# Altium footprint library qfp_footp.PcbLib: 36 footprints (part 1 of 4)
Each footprint in its own frame and in the unit in brackets; x right, y up, seen from the top. Pads: shape width x height; smd on the part's side, far side on the other; paste and mask are expansions set on the pad; w line width, h text height; cw(c..) or ccw(c..) is an arc to the next point about the centre after c.
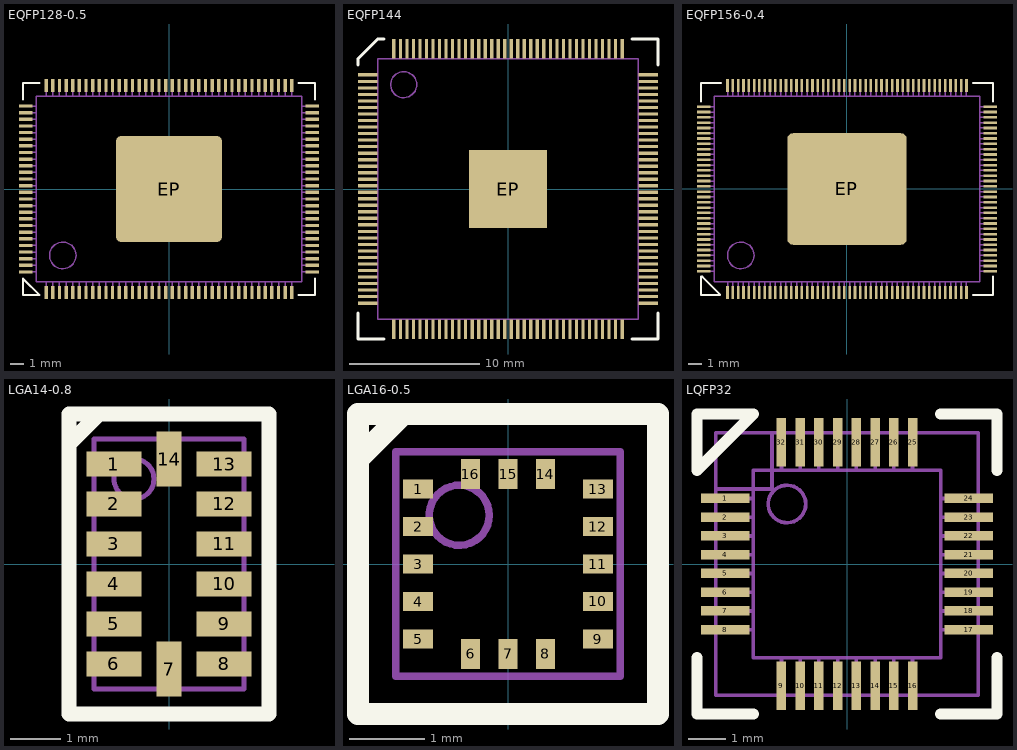
[diagram p0: the footprints below, top view; thin cyan lines are the x and y axes]

## EQFP128-0.5 [mm]
pads (129):
  rect 0.25x1 smd: 1(-9.25,-7.8) 2(-8.75,-7.8) 3(-8.25,-7.8) 4(-7.75,-7.8) 5(-7.25,-7.8) 6(-6.75,-7.8) 7(-6.25,-7.8) 8(-5.75,-7.8) 9(-5.25,-7.8) 10(-4.75,-7.8) 11(-4.25,-7.8) 12(-3.75,-7.8) 13(-3.25,-7.8) 14(-2.75,-7.8) 15(-2.25,-7.8) 16(-1.75,-7.8) 17(-1.25,-7.8) 18(-0.75,-7.8) 19(-0.25,-7.8) 20(0.25,-7.8) 21(0.75,-7.8) 22(1.25,-7.8) 23(1.75,-7.8) 24(2.25,-7.8) 25(2.75,-7.8) 26(3.25,-7.8) 27(3.75,-7.8) 28(4.25,-7.8) 29(4.75,-7.8) 30(5.25,-7.8) 31(5.75,-7.8) 32(6.25,-7.8) 33(6.75,-7.8) 34(7.25,-7.8) 35(7.75,-7.8) 36(8.25,-7.8) 37(8.75,-7.8) 38(9.25,-7.8) 65(9.25,7.8) 66(8.75,7.8) 67(8.25,7.8) 68(7.75,7.8) 69(7.25,7.8) 70(6.75,7.8) 71(6.25,7.8) 72(5.75,7.8) 73(5.25,7.8) 74(4.75,7.8) 75(4.25,7.8) 76(3.75,7.8) 77(3.25,7.8) 78(2.75,7.8) 79(2.25,7.8) 80(1.75,7.8) 81(1.25,7.8) 82(0.75,7.8) 83(0.25,7.8) 84(-0.25,7.8) 85(-0.75,7.8) 86(-1.25,7.8) 87(-1.75,7.8) 88(-2.25,7.8) 89(-2.75,7.8) 90(-3.25,7.8) 91(-3.75,7.8) 92(-4.25,7.8) 93(-4.75,7.8) 94(-5.25,7.8) 95(-5.75,7.8) 96(-6.25,7.8) 97(-6.75,7.8) 98(-7.25,7.8) 99(-7.75,7.8) 100(-8.25,7.8) 101(-8.75,7.8) 102(-9.25,7.8)
  rect 1x0.25 smd: 39(10.8,-6.25) 40(10.8,-5.75) 41(10.8,-5.25) 42(10.8,-4.75) 43(10.8,-4.25) 44(10.8,-3.75) 45(10.8,-3.25) 46(10.8,-2.75) 47(10.8,-2.25) 48(10.8,-1.75) 49(10.8,-1.25) 50(10.8,-0.75) 51(10.8,-0.25) 52(10.8,0.25) 53(10.8,0.75) 54(10.8,1.25) 55(10.8,1.75) 56(10.8,2.25) 57(10.8,2.75) 58(10.8,3.25) 59(10.8,3.75) 60(10.8,4.25) 61(10.8,4.75) 62(10.8,5.25) 63(10.8,5.75) 64(10.8,6.25) 103(-10.8,6.25) 104(-10.8,5.75) 105(-10.8,5.25) 106(-10.8,4.75) 107(-10.8,4.25) 108(-10.8,3.75) 109(-10.8,3.25) 110(-10.8,2.75) 111(-10.8,2.25) 112(-10.8,1.75) 113(-10.8,1.25) 114(-10.8,0.75) 115(-10.8,0.25) 116(-10.8,-0.25) 117(-10.8,-0.75) 118(-10.8,-1.25) 119(-10.8,-1.75) 120(-10.8,-2.25) 121(-10.8,-2.75) 122(-10.8,-3.25) 123(-10.8,-3.75) 124(-10.8,-4.25) 125(-10.8,-4.75) 126(-10.8,-5.25) 127(-10.8,-5.75) 128(-10.8,-6.25)
  rrect10% 8x8 smd paste-1.5: EP(0,0)
Top Overlay:
  lines w0.15: -11,6.75 -11,8 -9.75,8 ; 9.75,-8 11,-8 11,-6.75 ; 9.75,8 11,8 11,6.75 ; -11,-8 -11,-6.75 -9.75,-8 -11,-8
Mechanical 1:
  circle w0.1: c-8,-5 r1
  lines w0.1: -11,-6.25 -10,-6.25 ; -11,-5.75 -10,-5.75 ; -11,-5.25 -10,-5.25 ; -11,-4.75 -10,-4.75 ; -11,-4.25 -10,-4.25 ; -11,-3.75 -10,-3.75 ; -11,-3.25 -10,-3.25 ; -11,-2.75 -10,-2.75 ; -11,-2.25 -10,-2.25 ; -11,-1.75 -10,-1.75 ; -11,-1.25 -10,-1.25 ; -11,-0.75 -10,-0.75 ; -11,-0.25 -10,-0.25 ; -11,0.25 -10,0.25 ; -11,0.75 -10,0.75 ; -11,1.25 -10,1.25 ; -11,1.75 -10,1.75 ; -11,2.25 -10,2.25 ; -11,2.75 -10,2.75 ; -11,3.25 -10,3.25 ; -11,3.75 -10,3.75 ; -11,4.25 -10,4.25 ; -11,4.75 -10,4.75 ; -11,5.25 -10,5.25 ; -11,5.75 -10,5.75 ; -11,6.25 -10,6.25 ; -9.25,-8 -9.25,-7 ; -9.25,7 -9.25,8 ; -8.75,-8 -8.75,-7 ; -8.75,7 -8.75,8 ; -8.25,-8 -8.25,-7 ; -8.25,7 -8.25,8 ; -7.75,-8 -7.75,-7 ; -7.75,7 -7.75,8 ; -7.25,-8 -7.25,-7 ; -7.25,7 -7.25,8 ; -6.75,-8 -6.75,-7 ; -6.75,7 -6.75,8 ; -6.25,-8 -6.25,-7 ; -6.25,7 -6.25,8 ; -5.75,-8 -5.75,-7 ; -5.75,7 -5.75,8 ; -5.25,-8 -5.25,-7 ; -5.25,7 -5.25,8 ; -4.75,-8 -4.75,-7 ; -4.75,7 -4.75,8 ; -4.25,-8 -4.25,-7 ; -4.25,7 -4.25,8 ; -3.75,-8 -3.75,-7 ; -3.75,7 -3.75,8 ; -3.25,-8 -3.25,-7 ; -3.25,7 -3.25,8 ; -2.75,-8 -2.75,-7 ; -2.75,7 -2.75,8 ; -2.25,-8 -2.25,-7 ; -2.25,7 -2.25,8 ; -1.75,-8 -1.75,-7 ; -1.75,7 -1.75,8 ; -1.25,-8 -1.25,-7 ; -1.25,7 -1.25,8 ; -0.75,-8 -0.75,-7 ; -0.75,7 -0.75,8 ; -0.25,-8 -0.25,-7 ; -0.25,7 -0.25,8 ; 0.25,-8 0.25,-7 ; 0.25,7 0.25,8 ; 0.75,-8 0.75,-7 ; 0.75,7 0.75,8 ; 1.25,-8 1.25,-7 ; 1.25,7 1.25,8 ; 1.75,-8 1.75,-7 ; 1.75,7 1.75,8 ; 2.25,-8 2.25,-7 ; 2.25,7 2.25,8 ; 2.75,-8 2.75,-7 ; 2.75,7 2.75,8 ; 3.25,-8 3.25,-7 ; 3.25,7 3.25,8 ; 3.75,-8 3.75,-7 ; 3.75,7 3.75,8 ; 4.25,-8 4.25,-7 ; 4.25,7 4.25,8 ; 4.75,-8 4.75,-7 ; 4.75,7 4.75,8 ; 5.25,-8 5.25,-7 ; 5.25,7 5.25,8 ; 5.75,-8 5.75,-7 ; 5.75,7 5.75,8 ; 6.25,-8 6.25,-7 ; 6.25,7 6.25,8 ; 6.75,-8 6.75,-7 ; 6.75,7 6.75,8 ; 7.25,-8 7.25,-7 ; 7.25,7 7.25,8 ; 7.75,-8 7.75,-7 ; 7.75,7 7.75,8 ; 8.25,-8 8.25,-7 ; 8.25,7 8.25,8 ; 8.75,-8 8.75,-7 ; 8.75,7 8.75,8 ; 9.25,-8 9.25,-7 ; 9.25,7 9.25,8 ; 10,-6.25 11,-6.25 ; 10,-5.75 11,-5.75 ; 10,-5.25 11,-5.25 ; 10,-4.75 11,-4.75 ; 10,-4.25 11,-4.25 ; 10,-3.75 11,-3.75 ; 10,-3.25 11,-3.25 ; 10,-2.75 11,-2.75 ; 10,-2.25 11,-2.25 ; 10,-1.75 11,-1.75 ; 10,-1.25 11,-1.25 ; 10,-0.75 11,-0.75 ; 10,-0.25 11,-0.25 ; 10,0.25 11,0.25 ; 10,0.75 11,0.75 ; 10,1.25 11,1.25 ; 10,1.75 11,1.75 ; 10,2.25 11,2.25 ; 10,2.75 11,2.75 ; 10,3.25 11,3.25 ; 10,3.75 11,3.75 ; 10,4.25 11,4.25 ; 10,4.75 11,4.75 ; 10,5.25 11,5.25 ; 10,5.75 11,5.75 ; 10,6.25 11,6.25 ; -10,-7 10,-7 10,7 -10,7 -10,-7 ; -3.5,-3.5 3.5,-3.5 3.5,3.5 -3.5,3.5 -3.5,-3.5
3D body: height 0.75, standoff 0, extent 9.302,-6.35 11,-6.15
3D body: height 0.75, standoff 0, extent 9.302,-5.85 11,-5.65
3D body: height 0.75, standoff 0, extent 9.302,-4.85 11,-4.65
3D body: height 0.75, standoff 0, extent 9.302,-5.35 11,-5.15
3D body: height 0.75, standoff 0, extent 9.302,-3.35 11,-3.15
3D body: height 0.75, standoff 0, extent 9.302,-2.85 11,-2.65
3D body: height 0.75, standoff 0, extent 9.302,-3.85 11,-3.65
3D body: height 0.75, standoff 0, extent 9.302,-4.35 11,-4.15
3D body: height 0.75, standoff 0, extent 9.302,-0.35 11,-0.15
3D body: height 0.75, standoff 0, extent 9.302,0.15 11,0.35
3D body: height 0.75, standoff 0, extent 9.302,1.15 11,1.35
3D body: height 0.75, standoff 0, extent 9.302,0.65 11,0.85
3D body: height 0.75, standoff 0, extent 9.302,-1.35 11,-1.15
3D body: height 0.75, standoff 0, extent 9.302,-0.85 11,-0.65
3D body: height 0.75, standoff 0, extent 9.302,-1.85 11,-1.65
3D body: height 0.75, standoff 0, extent 9.302,-2.35 11,-2.15
3D body: height 0.75, standoff 0, extent 9.302,3.65 11,3.85
3D body: height 0.75, standoff 0, extent 9.302,4.15 11,4.35
3D body: height 0.75, standoff 0, extent 9.302,5.15 11,5.35
3D body: height 0.75, standoff 0, extent 9.302,4.65 11,4.85
3D body: height 0.75, standoff 0, extent 9.302,2.65 11,2.85
3D body: height 0.75, standoff 0, extent 9.302,3.15 11,3.35
3D body: height 0.75, standoff 0, extent 9.302,2.15 11,2.35
3D body: height 0.75, standoff 0, extent 9.302,1.65 11,1.85
3D body: height 0.75, standoff 0, extent 9.302,6.15 11,6.35
3D body: height 0.75, standoff 0, extent 9.302,5.65 11,5.85
3D body: height 0.75, standoff 0, extent 7.15,6.302 7.35,8
3D body: height 0.75, standoff 0, extent 6.65,6.302 6.85,8
3D body: height 0.75, standoff 0, extent 5.65,6.302 5.85,8
3D body: height 0.75, standoff 0, extent 6.15,6.302 6.35,8
3D body: height 0.75, standoff 0, extent 8.15,6.302 8.35,8
3D body: height 0.75, standoff 0, extent 7.65,6.302 7.85,8
3D body: height 0.75, standoff 0, extent 8.65,6.302 8.85,8
3D body: height 0.75, standoff 0, extent 9.15,6.302 9.35,8
3D body: height 0.75, standoff 0, extent 3.15,6.302 3.35,8
3D body: height 0.75, standoff 0, extent 2.65,6.302 2.85,8
3D body: height 0.75, standoff 0, extent 1.65,6.302 1.85,8
3D body: height 0.75, standoff 0, extent 2.15,6.302 2.35,8
3D body: height 0.75, standoff 0, extent 4.15,6.302 4.35,8
3D body: height 0.75, standoff 0, extent 3.65,6.302 3.85,8
3D body: height 0.75, standoff 0, extent 4.65,6.302 4.85,8
3D body: height 0.75, standoff 0, extent 5.15,6.302 5.35,8
3D body: height 0.75, standoff 0, extent -0.85,6.302 -0.65,8
3D body: height 0.75, standoff 0, extent -1.35,6.302 -1.15,8
3D body: height 0.75, standoff 0, extent -2.35,6.302 -2.15,8
3D body: height 0.75, standoff 0, extent -1.85,6.302 -1.65,8
3D body: height 0.75, standoff 0, extent 0.15,6.302 0.35,8
3D body: height 0.75, standoff 0, extent -0.35,6.302 -0.15,8
3D body: height 0.75, standoff 0, extent 0.65,6.302 0.85,8
3D body: height 0.75, standoff 0, extent 1.15,6.302 1.35,8
3D body: height 0.75, standoff 0, extent -4.85,6.302 -4.65,8
3D body: height 0.75, standoff 0, extent -5.35,6.302 -5.15,8
3D body: height 0.75, standoff 0, extent -6.35,6.302 -6.15,8
3D body: height 0.75, standoff 0, extent -5.85,6.302 -5.65,8
3D body: height 0.75, standoff 0, extent -3.85,6.302 -3.65,8
3D body: height 0.75, standoff 0, extent -4.35,6.302 -4.15,8
3D body: height 0.75, standoff 0, extent -3.35,6.302 -3.15,8
3D body: height 0.75, standoff 0, extent -2.85,6.302 -2.65,8
3D body: height 0.75, standoff 0, extent -8.85,6.302 -8.65,8
3D body: height 0.75, standoff 0, extent -9.35,6.302 -9.15,8
3D body: height 0.75, standoff 0, extent -7.85,6.302 -7.65,8
3D body: height 0.75, standoff 0, extent -8.35,6.302 -8.15,8
3D body: height 0.75, standoff 0, extent -7.35,6.302 -7.15,8
3D body: height 0.75, standoff 0, extent -6.85,6.302 -6.65,8
3D body: height 0.75, standoff 0, extent 6.65,-8 6.85,-6.302
3D body: height 0.75, standoff 0, extent 7.15,-8 7.35,-6.302
3D body: height 0.75, standoff 0, extent 8.15,-8 8.35,-6.302
3D body: height 0.75, standoff 0, extent 7.65,-8 7.85,-6.302
3D body: height 0.75, standoff 0, extent 9.15,-8 9.35,-6.302
3D body: height 0.75, standoff 0, extent 8.65,-8 8.85,-6.302
3D body: height 0.75, standoff 0, extent 2.65,-8 2.85,-6.302
3D body: height 0.75, standoff 0, extent 3.15,-8 3.35,-6.302
3D body: height 0.75, standoff 0, extent 4.15,-8 4.35,-6.302
3D body: height 0.75, standoff 0, extent 3.65,-8 3.85,-6.302
3D body: height 0.75, standoff 0, extent 5.65,-8 5.85,-6.302
3D body: height 0.75, standoff 0, extent 6.15,-8 6.35,-6.302
3D body: height 0.75, standoff 0, extent 5.15,-8 5.35,-6.302
3D body: height 0.75, standoff 0, extent 4.65,-8 4.85,-6.302
3D body: height 0.75, standoff 0, extent -1.35,-8 -1.15,-6.302
3D body: height 0.75, standoff 0, extent -0.85,-8 -0.65,-6.302
3D body: height 0.75, standoff 0, extent 0.15,-8 0.35,-6.302
3D body: height 0.75, standoff 0, extent -0.35,-8 -0.15,-6.302
3D body: height 0.75, standoff 0, extent 1.65,-8 1.85,-6.302
3D body: height 0.75, standoff 0, extent 2.15,-8 2.35,-6.302
3D body: height 0.75, standoff 0, extent 1.15,-8 1.35,-6.302
3D body: height 0.75, standoff 0, extent 0.65,-8 0.85,-6.302
3D body: height 0.75, standoff 0, extent -5.35,-8 -5.15,-6.302
3D body: height 0.75, standoff 0, extent -4.85,-8 -4.65,-6.302
3D body: height 0.75, standoff 0, extent -3.85,-8 -3.65,-6.302
3D body: height 0.75, standoff 0, extent -4.35,-8 -4.15,-6.302
3D body: height 0.75, standoff 0, extent -2.35,-8 -2.15,-6.302
3D body: height 0.75, standoff 0, extent -1.85,-8 -1.65,-6.302
3D body: height 0.75, standoff 0, extent -2.85,-8 -2.65,-6.302
3D body: height 0.75, standoff 0, extent -3.35,-8 -3.15,-6.302
3D body: height 0.75, standoff 0, extent -9.35,-8 -9.15,-6.302
3D body: height 0.75, standoff 0, extent -8.85,-8 -8.65,-6.302
3D body: height 0.75, standoff 0, extent -7.85,-8 -7.65,-6.302
3D body: height 0.75, standoff 0, extent -8.35,-8 -8.15,-6.302
3D body: height 0.75, standoff 0, extent -6.35,-8 -6.15,-6.302
3D body: height 0.75, standoff 0, extent -5.85,-8 -5.65,-6.302
3D body: height 0.75, standoff 0, extent -6.85,-8 -6.65,-6.302
3D body: height 0.75, standoff 0, extent -7.35,-8 -7.15,-6.302
3D body: height 0.75, standoff 0, extent -11,-5.85 -9.302,-5.65
3D body: height 0.75, standoff 0, extent -11,-6.35 -9.302,-6.15
3D body: height 0.75, standoff 0, extent -11,-1.85 -9.302,-1.65
3D body: height 0.75, standoff 0, extent -11,-2.35 -9.302,-2.15
3D body: height 0.75, standoff 0, extent -11,-3.35 -9.302,-3.15
3D body: height 0.75, standoff 0, extent -11,-2.85 -9.302,-2.65
3D body: height 0.75, standoff 0, extent -11,-4.85 -9.302,-4.65
3D body: height 0.75, standoff 0, extent -11,-5.35 -9.302,-5.15
3D body: height 0.75, standoff 0, extent -11,-4.35 -9.302,-4.15
3D body: height 0.75, standoff 0, extent -11,-3.85 -9.302,-3.65
3D body: height 0.75, standoff 0, extent -11,2.15 -9.302,2.35
3D body: height 0.75, standoff 0, extent -11,1.65 -9.302,1.85
3D body: height 0.75, standoff 0, extent -11,0.65 -9.302,0.85
3D body: height 0.75, standoff 0, extent -11,1.15 -9.302,1.35
3D body: height 0.75, standoff 0, extent -11,-0.85 -9.302,-0.65
3D body: height 0.75, standoff 0, extent -11,-1.35 -9.302,-1.15
3D body: height 0.75, standoff 0, extent -11,-0.35 -9.302,-0.15
3D body: height 0.75, standoff 0, extent -11,0.15 -9.302,0.35
3D body: height 0.75, standoff 0, extent -11,4.15 -9.302,4.35
3D body: height 0.75, standoff 0, extent -11,3.65 -9.302,3.85
3D body: height 0.75, standoff 0, extent -11,2.65 -9.302,2.85
3D body: height 0.75, standoff 0, extent -11,3.15 -9.302,3.35
3D body: height 0.75, standoff 0, extent -11,5.15 -9.302,5.35
3D body: height 0.75, standoff 0, extent -11,4.65 -9.302,4.85
3D body: height 0.75, standoff 0, extent -11,5.65 -9.302,5.85
3D body: height 0.75, standoff 0, extent -11,6.15 -9.302,6.35
3D body: height 1.6, standoff 0.1, extent -10,-7 10,7

## EQFP144 [mm]
height 1.2
pads (145):
  rect 1.5x0.25 smd: 1(-10.75,8.75) 2(-10.75,8.25) 3(-10.75,7.75) 4(-10.75,7.25) 5(-10.75,6.75) 6(-10.75,6.25) 7(-10.75,5.75) 8(-10.75,5.25) 9(-10.75,4.75) 10(-10.75,4.25) 11(-10.75,3.75) 12(-10.75,3.25) 13(-10.75,2.75) 14(-10.75,2.25) 15(-10.75,1.75) 16(-10.75,1.25) 17(-10.75,0.75) 18(-10.75,0.25) 19(-10.75,-0.25) 20(-10.75,-0.75) 21(-10.75,-1.25) 22(-10.75,-1.75) 23(-10.75,-2.25) 24(-10.75,-2.75) 25(-10.75,-3.25) 26(-10.75,-3.75) 27(-10.75,-4.25) 28(-10.75,-4.75) 29(-10.75,-5.25) 30(-10.75,-5.75) 31(-10.75,-6.25) 32(-10.75,-6.75) 33(-10.75,-7.25) 34(-10.75,-7.75) 35(-10.75,-8.25) 36(-10.75,-8.75) 73(10.75,-8.75) 74(10.75,-8.25) 75(10.75,-7.75) 76(10.75,-7.25) 77(10.75,-6.75) 78(10.75,-6.25) 79(10.75,-5.75) 80(10.75,-5.25) 81(10.75,-4.75) 82(10.75,-4.25) 83(10.75,-3.75) 84(10.75,-3.25) 85(10.75,-2.75) 86(10.75,-2.25) 87(10.75,-1.75) 88(10.75,-1.25) 89(10.75,-0.75) 90(10.75,-0.25) 91(10.75,0.25) 92(10.75,0.75) 93(10.75,1.25) 94(10.75,1.75) 95(10.75,2.25) 96(10.75,2.75) 97(10.75,3.25) 98(10.75,3.75) 99(10.75,4.25) 100(10.75,4.75) 101(10.75,5.25) 102(10.75,5.75) 103(10.75,6.25) 104(10.75,6.75) 105(10.75,7.25) 106(10.75,7.75) 107(10.75,8.25) 108(10.75,8.75)
  rect 0.25x1.5 smd: 37(-8.75,-10.75) 38(-8.25,-10.75) 39(-7.75,-10.75) 40(-7.25,-10.75) 41(-6.75,-10.75) 42(-6.25,-10.75) 43(-5.75,-10.75) 44(-5.25,-10.75) 45(-4.75,-10.75) 46(-4.25,-10.75) 47(-3.75,-10.75) 48(-3.25,-10.75) 49(-2.75,-10.75) 50(-2.25,-10.75) 51(-1.75,-10.75) 52(-1.25,-10.75) 53(-0.75,-10.75) 54(-0.25,-10.75) 55(0.25,-10.75) 56(0.75,-10.75) 57(1.25,-10.75) 58(1.75,-10.75) 59(2.25,-10.75) 60(2.75,-10.75) 61(3.25,-10.75) 62(3.75,-10.75) 63(4.25,-10.75) 64(4.75,-10.75) 65(5.25,-10.75) 66(5.75,-10.75) 67(6.25,-10.75) 68(6.75,-10.75) 69(7.25,-10.75) 70(7.75,-10.75) 71(8.25,-10.75) 72(8.75,-10.75) 109(8.75,10.75) 110(8.25,10.75) 111(7.75,10.75) 112(7.25,10.75) 113(6.75,10.75) 114(6.25,10.75) 115(5.75,10.75) 116(5.25,10.75) 117(4.75,10.75) 118(4.25,10.75) 119(3.75,10.75) 120(3.25,10.75) 121(2.75,10.75) 122(2.25,10.75) 123(1.75,10.75) 124(1.25,10.75) 125(0.75,10.75) 126(0.25,10.75) 127(-0.25,10.75) 128(-0.75,10.75) 129(-1.25,10.75) 130(-1.75,10.75) 131(-2.25,10.75) 132(-2.75,10.75) 133(-3.25,10.75) 134(-3.75,10.75) 135(-4.25,10.75) 136(-4.75,10.75) 137(-5.25,10.75) 138(-5.75,10.75) 139(-6.25,10.75) 140(-6.75,10.75) 141(-7.25,10.75) 142(-7.75,10.75) 143(-8.25,10.75) 144(-8.75,10.75)
  rect 6x6 smd paste-1.2: EP(0,0)
Top Overlay:
  lines w0.25: -11.5,-9.5 -11.5,-11.5 -9.5,-11.5 ; -11.5,9.5 -11.5,10 -10,11.5 -9.5,11.5 ; 9.5,-11.5 11.5,-11.5 11.5,-9.5 ; 9.5,11.5 11.5,11.5 11.5,9.5
Mechanical 1:
  circle w0.1: c-8,8 r1
  lines w0.1: -11,-8.75 -10,-8.75 ; -11,-8.25 -10,-8.25 ; -11,-7.75 -10,-7.75 ; -11,-7.25 -10,-7.25 ; -11,-6.75 -10,-6.75 ; -11,-6.25 -10,-6.25 ; -11,-5.75 -10,-5.75 ; -11,-5.25 -10,-5.25 ; -11,-4.75 -10,-4.75 ; -11,-4.25 -10,-4.25 ; -11,-3.75 -10,-3.75 ; -11,-3.25 -10,-3.25 ; -11,-2.75 -10,-2.75 ; -11,-2.25 -10,-2.25 ; -11,-1.75 -10,-1.75 ; -11,-1.25 -10,-1.25 ; -11,-0.75 -10,-0.75 ; -11,-0.25 -10,-0.25 ; -11,0.25 -10,0.25 ; -11,0.75 -10,0.75 ; -11,1.25 -10,1.25 ; -11,1.75 -10,1.75 ; -11,2.25 -10,2.25 ; -11,2.75 -10,2.75 ; -11,3.25 -10,3.25 ; -11,3.75 -10,3.75 ; -11,4.25 -10,4.25 ; -11,4.75 -10,4.75 ; -11,5.25 -10,5.25 ; -11,5.75 -10,5.75 ; -11,6.25 -10,6.25 ; -11,6.75 -10,6.75 ; -11,7.25 -10,7.25 ; -11,7.75 -10,7.75 ; -11,8.25 -10,8.25 ; -11,8.75 -10,8.75 ; -8.75,-11 -8.75,-10 ; -8.75,10 -8.75,11 ; -8.25,-11 -8.25,-10 ; -8.25,10 -8.25,11 ; -7.75,-11 -7.75,-10 ; -7.75,10 -7.75,11 ; -7.25,-11 -7.25,-10 ; -7.25,10 -7.25,11 ; -6.75,-11 -6.75,-10 ; -6.75,10 -6.75,11 ; -6.25,-11 -6.25,-10 ; -6.25,10 -6.25,11 ; -5.75,-11 -5.75,-10 ; -5.75,10 -5.75,11 ; -5.25,-11 -5.25,-10 ; -5.25,10 -5.25,11 ; -4.75,-11 -4.75,-10 ; -4.75,10 -4.75,11 ; -4.25,-11 -4.25,-10 ; -4.25,10 -4.25,11 ; -3.75,-11 -3.75,-10 ; -3.75,10 -3.75,11 ; -3.25,-11 -3.25,-10 ; -3.25,10 -3.25,11 ; -2.75,-11 -2.75,-10 ; -2.75,10 -2.75,11 ; -2.25,-11 -2.25,-10 ; -2.25,10 -2.25,11 ; -1.75,-11 -1.75,-10 ; -1.75,10 -1.75,11 ; -1.25,-11 -1.25,-10 ; -1.25,10 -1.25,11 ; -0.75,-11 -0.75,-10 ; -0.75,10 -0.75,11 ; -0.25,-11 -0.25,-10 ; -0.25,10 -0.25,11 ; 0.25,-11 0.25,-10 ; 0.25,10 0.25,11 ; 0.75,-11 0.75,-10 ; 0.75,10 0.75,11 ; 1.25,-11 1.25,-10 ; 1.25,10 1.25,11 ; 1.75,-11 1.75,-10 ; 1.75,10 1.75,11 ; 2.25,-11 2.25,-10 ; 2.25,10 2.25,11 ; 2.75,-11 2.75,-10 ; 2.75,10 2.75,11 ; 3.25,-11 3.25,-10 ; 3.25,10 3.25,11 ; 3.75,-11 3.75,-10 ; 3.75,10 3.75,11 ; 4.25,-11 4.25,-10 ; 4.25,10 4.25,11 ; 4.75,-11 4.75,-10 ; 4.75,10 4.75,11 ; 5.25,-11 5.25,-10 ; 5.25,10 5.25,11 ; 5.75,-11 5.75,-10 ; 5.75,10 5.75,11 ; 6.25,-11 6.25,-10 ; 6.25,10 6.25,11 ; 6.75,-11 6.75,-10 ; 6.75,10 6.75,11 ; 7.25,-11 7.25,-10 ; 7.25,10 7.25,11 ; 7.75,-11 7.75,-10 ; 7.75,10 7.75,11 ; 8.25,-11 8.25,-10 ; 8.25,10 8.25,11 ; 8.75,-11 8.75,-10 ; 8.75,10 8.75,11 ; 10,-8.75 11,-8.75 ; 10,-8.25 11,-8.25 ; 10,-7.75 11,-7.75 ; 10,-7.25 11,-7.25 ; 10,-6.75 11,-6.75 ; 10,-6.25 11,-6.25 ; 10,-5.75 11,-5.75 ; 10,-5.25 11,-5.25 ; 10,-4.75 11,-4.75 ; 10,-4.25 11,-4.25 ; 10,-3.75 11,-3.75 ; 10,-3.25 11,-3.25 ; 10,-2.75 11,-2.75 ; 10,-2.25 11,-2.25 ; 10,-1.75 11,-1.75 ; 10,-1.25 11,-1.25 ; 10,-0.75 11,-0.75 ; 10,-0.25 11,-0.25 ; 10,0.25 11,0.25 ; 10,0.75 11,0.75 ; 10,1.25 11,1.25 ; 10,1.75 11,1.75 ; 10,2.25 11,2.25 ; 10,2.75 11,2.75 ; 10,3.25 11,3.25 ; 10,3.75 11,3.75 ; 10,4.25 11,4.25 ; 10,4.75 11,4.75 ; 10,5.25 11,5.25 ; 10,5.75 11,5.75 ; 10,6.25 11,6.25 ; 10,6.75 11,6.75 ; 10,7.25 11,7.25 ; 10,7.75 11,7.75 ; 10,8.25 11,8.25 ; 10,8.75 11,8.75 ; -10,-10 -10,10 10,10 10,-10 -10,-10
3D body: height 0.75, standoff 0, extent -11.098,8.66 -9.4,8.86
3D body: height 0.75, standoff 0, extent -11.098,8.16 -9.4,8.36
3D body: height 0.75, standoff 0, extent -11.098,7.66 -9.4,7.86
3D body: height 0.75, standoff 0, extent -11.098,7.16 -9.4,7.36
3D body: height 0.75, standoff 0, extent -11.098,5.16 -9.4,5.36
3D body: height 0.75, standoff 0, extent -11.098,5.66 -9.4,5.86
3D body: height 0.75, standoff 0, extent -11.098,6.16 -9.4,6.36
3D body: height 0.75, standoff 0, extent -11.098,6.66 -9.4,6.86
3D body: height 0.75, standoff 0, extent -11.098,3.16 -9.4,3.36
3D body: height 0.75, standoff 0, extent -11.098,3.66 -9.4,3.86
3D body: height 0.75, standoff 0, extent -11.098,4.16 -9.4,4.36
3D body: height 0.75, standoff 0, extent -11.098,4.66 -9.4,4.86
3D body: height 0.75, standoff 0, extent -11.098,1.16 -9.4,1.36
3D body: height 0.75, standoff 0, extent -11.098,1.66 -9.4,1.86
3D body: height 0.75, standoff 0, extent -11.098,2.16 -9.4,2.36
3D body: height 0.75, standoff 0, extent -11.098,2.66 -9.4,2.86
3D body: height 0.75, standoff 0, extent -11.098,-0.84 -9.4,-0.64
3D body: height 0.75, standoff 0, extent -11.098,-0.34 -9.4,-0.14
3D body: height 0.75, standoff 0, extent -11.098,0.16 -9.4,0.36
3D body: height 0.75, standoff 0, extent -11.098,0.66 -9.4,0.86
3D body: height 0.75, standoff 0, extent -11.098,-2.84 -9.4,-2.64
3D body: height 0.75, standoff 0, extent -11.098,-2.34 -9.4,-2.14
3D body: height 0.75, standoff 0, extent -11.098,-1.84 -9.4,-1.64
3D body: height 0.75, standoff 0, extent -11.098,-1.34 -9.4,-1.14
3D body: height 0.75, standoff 0, extent -11.098,-4.84 -9.4,-4.64
3D body: height 0.75, standoff 0, extent -11.098,-4.34 -9.4,-4.14
3D body: height 0.75, standoff 0, extent -11.098,-3.84 -9.4,-3.64
3D body: height 0.75, standoff 0, extent -11.098,-3.34 -9.4,-3.14
3D body: height 0.75, standoff 0, extent -11.098,-6.84 -9.4,-6.64
3D body: height 0.75, standoff 0, extent -11.098,-6.34 -9.4,-6.14
3D body: height 0.75, standoff 0, extent -11.098,-5.84 -9.4,-5.64
3D body: height 0.75, standoff 0, extent -11.098,-5.34 -9.4,-5.14
3D body: height 0.75, standoff 0, extent -11.098,-8.84 -9.4,-8.64
3D body: height 0.75, standoff 0, extent -11.098,-8.34 -9.4,-8.14
3D body: height 0.75, standoff 0, extent -11.098,-7.84 -9.4,-7.64
3D body: height 0.75, standoff 0, extent -11.098,-7.34 -9.4,-7.14
3D body: height 1.2, standoff 0.1, extent -10,-10 10,10
3D body: height 0.75, standoff 0, extent 7.14,-11.098 7.34,-9.4
3D body: height 0.75, standoff 0, extent 7.64,-11.098 7.84,-9.4
3D body: height 0.75, standoff 0, extent 8.14,-11.098 8.34,-9.4
3D body: height 0.75, standoff 0, extent 8.64,-11.098 8.84,-9.4
3D body: height 0.75, standoff 0, extent 5.14,-11.098 5.34,-9.4
3D body: height 0.75, standoff 0, extent 5.64,-11.098 5.84,-9.4
3D body: height 0.75, standoff 0, extent 6.14,-11.098 6.34,-9.4
3D body: height 0.75, standoff 0, extent 6.64,-11.098 6.84,-9.4
3D body: height 0.75, standoff 0, extent 3.14,-11.098 3.34,-9.4
3D body: height 0.75, standoff 0, extent 3.64,-11.098 3.84,-9.4
3D body: height 0.75, standoff 0, extent 4.14,-11.098 4.34,-9.4
3D body: height 0.75, standoff 0, extent 4.64,-11.098 4.84,-9.4
3D body: height 0.75, standoff 0, extent 1.14,-11.098 1.34,-9.4
3D body: height 0.75, standoff 0, extent 1.64,-11.098 1.84,-9.4
3D body: height 0.75, standoff 0, extent 2.14,-11.098 2.34,-9.4
3D body: height 0.75, standoff 0, extent 2.64,-11.098 2.84,-9.4
3D body: height 0.75, standoff 0, extent -0.86,-11.098 -0.66,-9.4
3D body: height 0.75, standoff 0, extent -0.36,-11.098 -0.16,-9.4
3D body: height 0.75, standoff 0, extent 0.14,-11.098 0.34,-9.4
3D body: height 0.75, standoff 0, extent 0.64,-11.098 0.84,-9.4
3D body: height 0.75, standoff 0, extent -2.86,-11.098 -2.66,-9.4
3D body: height 0.75, standoff 0, extent -2.36,-11.098 -2.16,-9.4
3D body: height 0.75, standoff 0, extent -1.86,-11.098 -1.66,-9.4
3D body: height 0.75, standoff 0, extent -1.36,-11.098 -1.16,-9.4
3D body: height 0.75, standoff 0, extent -4.86,-11.098 -4.66,-9.4
3D body: height 0.75, standoff 0, extent -4.36,-11.098 -4.16,-9.4
3D body: height 0.75, standoff 0, extent -3.86,-11.098 -3.66,-9.4
3D body: height 0.75, standoff 0, extent -3.36,-11.098 -3.16,-9.4
3D body: height 0.75, standoff 0, extent -6.86,-11.098 -6.66,-9.4
3D body: height 0.75, standoff 0, extent -6.36,-11.098 -6.16,-9.4
3D body: height 0.75, standoff 0, extent -5.86,-11.098 -5.66,-9.4
3D body: height 0.75, standoff 0, extent -5.36,-11.098 -5.16,-9.4
3D body: height 0.75, standoff 0, extent -7.36,-11.098 -7.16,-9.4
3D body: height 0.75, standoff 0, extent -7.86,-11.098 -7.66,-9.4
3D body: height 0.75, standoff 0, extent -8.36,-11.098 -8.16,-9.4
3D body: height 0.75, standoff 0, extent -8.86,-11.098 -8.66,-9.4
3D body: height 0.75, standoff 0, extent 9.4,7.14 11.098,7.34
3D body: height 0.75, standoff 0, extent 9.4,7.64 11.098,7.84
3D body: height 0.75, standoff 0, extent 9.4,8.14 11.098,8.34
3D body: height 0.75, standoff 0, extent 9.4,8.64 11.098,8.84
3D body: height 0.75, standoff 0, extent 9.4,5.14 11.098,5.34
3D body: height 0.75, standoff 0, extent 9.4,5.64 11.098,5.84
3D body: height 0.75, standoff 0, extent 9.4,6.14 11.098,6.34
3D body: height 0.75, standoff 0, extent 9.4,6.64 11.098,6.84
3D body: height 0.75, standoff 0, extent 9.4,3.14 11.098,3.34
3D body: height 0.75, standoff 0, extent 9.4,3.64 11.098,3.84
3D body: height 0.75, standoff 0, extent 9.4,4.14 11.098,4.34
3D body: height 0.75, standoff 0, extent 9.4,4.64 11.098,4.84
3D body: height 0.75, standoff 0, extent 9.4,1.14 11.098,1.34
3D body: height 0.75, standoff 0, extent 9.4,1.64 11.098,1.84
3D body: height 0.75, standoff 0, extent 9.4,2.14 11.098,2.34
3D body: height 0.75, standoff 0, extent 9.4,2.64 11.098,2.84
3D body: height 0.75, standoff 0, extent 9.4,-0.86 11.098,-0.66
3D body: height 0.75, standoff 0, extent 9.4,-0.36 11.098,-0.16
3D body: height 0.75, standoff 0, extent 9.4,0.14 11.098,0.34
3D body: height 0.75, standoff 0, extent 9.4,0.64 11.098,0.84
3D body: height 0.75, standoff 0, extent 9.4,-2.86 11.098,-2.66
3D body: height 0.75, standoff 0, extent 9.4,-2.36 11.098,-2.16
3D body: height 0.75, standoff 0, extent 9.4,-1.86 11.098,-1.66
3D body: height 0.75, standoff 0, extent 9.4,-1.36 11.098,-1.16
3D body: height 0.75, standoff 0, extent 9.4,-4.86 11.098,-4.66
3D body: height 0.75, standoff 0, extent 9.4,-4.36 11.098,-4.16
3D body: height 0.75, standoff 0, extent 9.4,-3.86 11.098,-3.66
3D body: height 0.75, standoff 0, extent 9.4,-3.36 11.098,-3.16
3D body: height 0.75, standoff 0, extent 9.4,-6.86 11.098,-6.66
3D body: height 0.75, standoff 0, extent 9.4,-6.36 11.098,-6.16
3D body: height 0.75, standoff 0, extent 9.4,-5.86 11.098,-5.66
3D body: height 0.75, standoff 0, extent 9.4,-5.36 11.098,-5.16
3D body: height 0.75, standoff 0, extent 9.4,-7.36 11.098,-7.16
3D body: height 0.75, standoff 0, extent 9.4,-7.86 11.098,-7.66
3D body: height 0.75, standoff 0, extent 9.4,-8.36 11.098,-8.16
3D body: height 0.75, standoff 0, extent 9.4,-8.86 11.098,-8.66
3D body: height 0.75, standoff 0, extent -7.34,9.4 -7.14,11.098
3D body: height 0.75, standoff 0, extent -7.84,9.4 -7.64,11.098
3D body: height 0.75, standoff 0, extent -8.34,9.4 -8.14,11.098
3D body: height 0.75, standoff 0, extent -8.84,9.4 -8.64,11.098
3D body: height 0.75, standoff 0, extent -5.34,9.4 -5.14,11.098
3D body: height 0.75, standoff 0, extent -5.84,9.4 -5.64,11.098
3D body: height 0.75, standoff 0, extent -6.34,9.4 -6.14,11.098
3D body: height 0.75, standoff 0, extent -6.84,9.4 -6.64,11.098
3D body: height 0.75, standoff 0, extent -3.34,9.4 -3.14,11.098
3D body: height 0.75, standoff 0, extent -3.84,9.4 -3.64,11.098
3D body: height 0.75, standoff 0, extent -4.34,9.4 -4.14,11.098
3D body: height 0.75, standoff 0, extent -4.84,9.4 -4.64,11.098
3D body: height 0.75, standoff 0, extent -1.34,9.4 -1.14,11.098
3D body: height 0.75, standoff 0, extent -1.84,9.4 -1.64,11.098
3D body: height 0.75, standoff 0, extent -2.34,9.4 -2.14,11.098
3D body: height 0.75, standoff 0, extent -2.84,9.4 -2.64,11.098
3D body: height 0.75, standoff 0, extent 0.66,9.4 0.86,11.098
3D body: height 0.75, standoff 0, extent 0.16,9.4 0.36,11.098
3D body: height 0.75, standoff 0, extent -0.34,9.4 -0.14,11.098
3D body: height 0.75, standoff 0, extent -0.84,9.4 -0.64,11.098
3D body: height 0.75, standoff 0, extent 2.66,9.4 2.86,11.098
3D body: height 0.75, standoff 0, extent 2.16,9.4 2.36,11.098
3D body: height 0.75, standoff 0, extent 1.66,9.4 1.86,11.098
3D body: height 0.75, standoff 0, extent 1.16,9.4 1.36,11.098
3D body: height 0.75, standoff 0, extent 4.66,9.4 4.86,11.098
3D body: height 0.75, standoff 0, extent 4.16,9.4 4.36,11.098
3D body: height 0.75, standoff 0, extent 3.66,9.4 3.86,11.098
3D body: height 0.75, standoff 0, extent 3.16,9.4 3.36,11.098
3D body: height 0.75, standoff 0, extent 6.66,9.4 6.86,11.098
3D body: height 0.75, standoff 0, extent 6.16,9.4 6.36,11.098
3D body: height 0.75, standoff 0, extent 5.66,9.4 5.86,11.098
3D body: height 0.75, standoff 0, extent 5.16,9.4 5.36,11.098
3D body: height 0.75, standoff 0, extent 7.16,9.4 7.36,11.098
3D body: height 0.75, standoff 0, extent 7.66,9.4 7.86,11.098
3D body: height 0.75, standoff 0, extent 8.16,9.4 8.36,11.098
3D body: height 0.75, standoff 0, extent 8.66,9.4 8.86,11.098

## EQFP156-0.4 [mm]
pads (157):
  rect 0.2x1 smd: 1(-9,-7.8) 2(-8.6,-7.8) 3(-8.2,-7.8) 4(-7.8,-7.8) 5(-7.4,-7.8) 6(-7,-7.8) 7(-6.6,-7.8) 8(-6.2,-7.8) 9(-5.8,-7.8) 10(-5.4,-7.8) 11(-5,-7.8) 12(-4.6,-7.8) 13(-4.2,-7.8) 14(-3.8,-7.8) 15(-3.4,-7.8) 16(-3,-7.8) 17(-2.6,-7.8) 18(-2.2,-7.8) 19(-1.8,-7.8) 20(-1.4,-7.8) 21(-1,-7.8) 22(-0.6,-7.8) 23(-0.2,-7.8) 24(0.2,-7.8) 25(0.6,-7.8) 26(1,-7.8) 27(1.4,-7.8) 28(1.8,-7.8) 29(2.2,-7.8) 30(2.6,-7.8) 31(3,-7.8) 32(3.4,-7.8) 33(3.8,-7.8) 34(4.2,-7.8) 35(4.6,-7.8) 36(5,-7.8) 37(5.4,-7.8) 38(5.8,-7.8) 39(6.2,-7.8) 40(6.6,-7.8) 41(7,-7.8) 42(7.4,-7.8) 43(7.8,-7.8) 44(8.2,-7.8) 45(8.6,-7.8) 46(9,-7.8) 79(9,7.8) 80(8.6,7.8) 81(8.2,7.8) 82(7.8,7.8) 83(7.4,7.8) 84(7,7.8) 85(6.6,7.8) 86(6.2,7.8) 87(5.8,7.8) 88(5.4,7.8) 89(5,7.8) 90(4.6,7.8) 91(4.2,7.8) 92(3.8,7.8) 93(3.4,7.8) 94(3,7.8) 95(2.6,7.8) 96(2.2,7.8) 97(1.8,7.8) 98(1.4,7.8) 99(1,7.8) 100(0.6,7.8) 101(0.2,7.8) 102(-0.2,7.8) 103(-0.6,7.8) 104(-1,7.8) 105(-1.4,7.8) 106(-1.8,7.8) 107(-2.2,7.8) 108(-2.6,7.8) 109(-3,7.8) 110(-3.4,7.8) 111(-3.8,7.8) 112(-4.2,7.8) 113(-4.6,7.8) 114(-5,7.8) 115(-5.4,7.8) 116(-5.8,7.8) 117(-6.2,7.8) 118(-6.6,7.8) 119(-7,7.8) 120(-7.4,7.8) 121(-7.8,7.8) 122(-8.2,7.8) 123(-8.6,7.8) 124(-9,7.8)
  rect 1x0.2 smd: 47(10.8,-6.2) 48(10.8,-5.8) 49(10.8,-5.4) 50(10.8,-5) 51(10.8,-4.6) 52(10.8,-4.2) 53(10.8,-3.8) 54(10.8,-3.4) 55(10.8,-3) 56(10.8,-2.6) 57(10.8,-2.2) 58(10.8,-1.8) 59(10.8,-1.4) 60(10.8,-1) 61(10.8,-0.6) 62(10.8,-0.2) 63(10.8,0.2) 64(10.8,0.6) 65(10.8,1) 66(10.8,1.4) 67(10.8,1.8) 68(10.8,2.2) 69(10.8,2.6) 70(10.8,3) 71(10.8,3.4) 72(10.8,3.8) 73(10.8,4.2) 74(10.8,4.6) 75(10.8,5) 76(10.8,5.4) 77(10.8,5.8) 78(10.8,6.2) 125(-10.8,6.2) 126(-10.8,5.8) 127(-10.8,5.4) 128(-10.8,5) 129(-10.8,4.6) 130(-10.8,4.2) 131(-10.8,3.8) 132(-10.8,3.4) 133(-10.8,3) 134(-10.8,2.6) 135(-10.8,2.2) 136(-10.8,1.8) 137(-10.8,1.4) 138(-10.8,1) 139(-10.8,0.6) 140(-10.8,0.2) 141(-10.8,-0.2) 142(-10.8,-0.6) 143(-10.8,-1) 144(-10.8,-1.4) 145(-10.8,-1.8) 146(-10.8,-2.2) 147(-10.8,-2.6) 148(-10.8,-3) 149(-10.8,-3.4) 150(-10.8,-3.8) 151(-10.8,-4.2) 152(-10.8,-4.6) 153(-10.8,-5) 154(-10.8,-5.4) 155(-10.8,-5.8) 156(-10.8,-6.2)
  rrect10% 9x8.4 smd paste-1.5: EP(0,0)
Top Overlay:
  lines w0.15: -11,6.6 -11,8 -9.5,8 ; 9.5,-8 11,-8 11,-6.6 ; 9.5,8 11,8 11,6.6 ; -11,-8 -9.6,-8 -9.55,-7.95 -10.9,-6.6 -11,-6.6 -11,-8
Mechanical 1:
  drawing of 165 lines, arcs and shapes, not listed
3D body: height 1.6, standoff 0.1, extent -10,-7 10,7
3D body: height 0.75, standoff 0, extent -9.1,6.351 -8.9,8.049
3D body: height 0.75, standoff 0, extent -11.049,6.1 -9.351,6.3
3D body: height 0.75, standoff 0, extent -11.049,5.3 -9.351,5.5
3D body: height 0.75, standoff 0, extent -11.049,5.7 -9.351,5.9
3D body: height 0.75, standoff 0, extent -11.049,4.1 -9.351,4.3
3D body: height 0.75, standoff 0, extent -11.049,3.7 -9.351,3.9
3D body: height 0.75, standoff 0, extent -11.049,4.5 -9.351,4.7
3D body: height 0.75, standoff 0, extent -11.049,4.9 -9.351,5.1
3D body: height 0.75, standoff 0, extent -11.049,1.7 -9.351,1.9
3D body: height 0.75, standoff 0, extent -11.049,1.3 -9.351,1.5
3D body: height 0.75, standoff 0, extent -11.049,0.5 -9.351,0.7
3D body: height 0.75, standoff 0, extent -11.049,0.9 -9.351,1.1
3D body: height 0.75, standoff 0, extent -11.049,2.5 -9.351,2.7
3D body: height 0.75, standoff 0, extent -11.049,2.1 -9.351,2.3
3D body: height 0.75, standoff 0, extent -11.049,2.9 -9.351,3.1
3D body: height 0.75, standoff 0, extent -11.049,3.3 -9.351,3.5
3D body: height 0.75, standoff 0, extent -11.049,-1.5 -9.351,-1.3
3D body: height 0.75, standoff 0, extent -11.049,-1.9 -9.351,-1.7
3D body: height 0.75, standoff 0, extent -11.049,-2.7 -9.351,-2.5
3D body: height 0.75, standoff 0, extent -11.049,-2.3 -9.351,-2.1
3D body: height 0.75, standoff 0, extent -11.049,-0.7 -9.351,-0.5
3D body: height 0.75, standoff 0, extent -11.049,-1.1 -9.351,-0.9
3D body: height 0.75, standoff 0, extent -11.049,-0.3 -9.351,-0.1
3D body: height 0.75, standoff 0, extent -11.049,0.1 -9.351,0.3
3D body: height 0.75, standoff 0, extent -11.049,-4.7 -9.351,-4.5
3D body: height 0.75, standoff 0, extent -11.049,-5.1 -9.351,-4.9
3D body: height 0.75, standoff 0, extent -11.049,-5.5 -9.351,-5.3
3D body: height 0.75, standoff 0, extent -11.049,-3.9 -9.351,-3.7
3D body: height 0.75, standoff 0, extent -11.049,-4.3 -9.351,-4.1
3D body: height 0.75, standoff 0, extent -11.049,-3.5 -9.351,-3.3
3D body: height 0.75, standoff 0, extent -11.049,-3.1 -9.351,-2.9
3D body: height 0.75, standoff 0, extent 7.7,-8.049 7.9,-6.351
3D body: height 0.75, standoff 0, extent 8.1,-8.049 8.3,-6.351
3D body: height 0.75, standoff 0, extent 8.9,-8.049 9.1,-6.351
3D body: height 0.75, standoff 0, extent 8.5,-8.049 8.7,-6.351
3D body: height 0.75, standoff 0, extent 6.9,-8.049 7.1,-6.351
3D body: height 0.75, standoff 0, extent 7.3,-8.049 7.5,-6.351
3D body: height 0.75, standoff 0, extent 6.5,-8.049 6.7,-6.351
3D body: height 0.75, standoff 0, extent 6.1,-8.049 6.3,-6.351
3D body: height 0.75, standoff 0, extent 4.5,-8.049 4.7,-6.351
3D body: height 0.75, standoff 0, extent 4.9,-8.049 5.1,-6.351
3D body: height 0.75, standoff 0, extent 5.7,-8.049 5.9,-6.351
3D body: height 0.75, standoff 0, extent 5.3,-8.049 5.5,-6.351
3D body: height 0.75, standoff 0, extent 3.7,-8.049 3.9,-6.351
3D body: height 0.75, standoff 0, extent 4.1,-8.049 4.3,-6.351
3D body: height 0.75, standoff 0, extent 3.3,-8.049 3.5,-6.351
3D body: height 0.75, standoff 0, extent 2.9,-8.049 3.1,-6.351
3D body: height 0.75, standoff 0, extent 1.3,-8.049 1.5,-6.351
3D body: height 0.75, standoff 0, extent 1.7,-8.049 1.9,-6.351
3D body: height 0.75, standoff 0, extent 2.5,-8.049 2.7,-6.351
3D body: height 0.75, standoff 0, extent 2.1,-8.049 2.3,-6.351
3D body: height 0.75, standoff 0, extent 0.5,-8.049 0.7,-6.351
3D body: height 0.75, standoff 0, extent 0.9,-8.049 1.1,-6.351
3D body: height 0.75, standoff 0, extent 0.1,-8.049 0.3,-6.351
3D body: height 0.75, standoff 0, extent -0.3,-8.049 -0.1,-6.351
3D body: height 0.75, standoff 0, extent -1.9,-8.049 -1.7,-6.351
3D body: height 0.75, standoff 0, extent -1.5,-8.049 -1.3,-6.351
3D body: height 0.75, standoff 0, extent -0.7,-8.049 -0.5,-6.351
3D body: height 0.75, standoff 0, extent -1.1,-8.049 -0.9,-6.351
3D body: height 0.75, standoff 0, extent -2.7,-8.049 -2.5,-6.351
3D body: height 0.75, standoff 0, extent -2.3,-8.049 -2.1,-6.351
3D body: height 0.75, standoff 0, extent -3.1,-8.049 -2.9,-6.351
3D body: height 0.75, standoff 0, extent -3.5,-8.049 -3.3,-6.351
3D body: height 0.75, standoff 0, extent -5.1,-8.049 -4.9,-6.351
3D body: height 0.75, standoff 0, extent -4.7,-8.049 -4.5,-6.351
3D body: height 0.75, standoff 0, extent -3.9,-8.049 -3.7,-6.351
3D body: height 0.75, standoff 0, extent -4.3,-8.049 -4.1,-6.351
3D body: height 0.75, standoff 0, extent -5.9,-8.049 -5.7,-6.351
3D body: height 0.75, standoff 0, extent -5.5,-8.049 -5.3,-6.351
3D body: height 0.75, standoff 0, extent -6.3,-8.049 -6.1,-6.351
3D body: height 0.75, standoff 0, extent -6.7,-8.049 -6.5,-6.351
3D body: height 0.75, standoff 0, extent -8.3,-8.049 -8.1,-6.351
3D body: height 0.75, standoff 0, extent -7.9,-8.049 -7.7,-6.351
3D body: height 0.75, standoff 0, extent -7.1,-8.049 -6.9,-6.351
3D body: height 0.75, standoff 0, extent -7.5,-8.049 -7.3,-6.351
3D body: height 0.75, standoff 0, extent -9.1,-8.049 -8.9,-6.351
3D body: height 0.75, standoff 0, extent -8.7,-8.049 -8.5,-6.351
3D body: height 0.75, standoff 0, extent 8.9,6.351 9.1,8.049
3D body: height 0.75, standoff 0, extent 9.351,6.1 11.049,6.3
3D body: height 0.75, standoff 0, extent 7.7,6.351 7.9,8.049
3D body: height 0.75, standoff 0, extent 7.3,6.351 7.5,8.049
3D body: height 0.75, standoff 0, extent 8.1,6.351 8.3,8.049
3D body: height 0.75, standoff 0, extent 8.5,6.351 8.7,8.049
3D body: height 0.75, standoff 0, extent 6.9,6.351 7.1,8.049
3D body: height 0.75, standoff 0, extent 6.5,6.351 6.7,8.049
3D body: height 0.75, standoff 0, extent 5.7,6.351 5.9,8.049
3D body: height 0.75, standoff 0, extent 6.1,6.351 6.3,8.049
3D body: height 0.75, standoff 0, extent 4.5,6.351 4.7,8.049
3D body: height 0.75, standoff 0, extent 4.1,6.351 4.3,8.049
3D body: height 0.75, standoff 0, extent 4.9,6.351 5.1,8.049
3D body: height 0.75, standoff 0, extent 5.3,6.351 5.5,8.049
3D body: height 0.75, standoff 0, extent 3.7,6.351 3.9,8.049
3D body: height 0.75, standoff 0, extent 3.3,6.351 3.5,8.049
3D body: height 0.75, standoff 0, extent 2.5,6.351 2.7,8.049
3D body: height 0.75, standoff 0, extent 2.9,6.351 3.1,8.049
3D body: height 0.75, standoff 0, extent 1.3,6.351 1.5,8.049
3D body: height 0.75, standoff 0, extent 0.9,6.351 1.1,8.049
3D body: height 0.75, standoff 0, extent 1.7,6.351 1.9,8.049
3D body: height 0.75, standoff 0, extent 2.1,6.351 2.3,8.049
3D body: height 0.75, standoff 0, extent 0.5,6.351 0.7,8.049
3D body: height 0.75, standoff 0, extent 0.1,6.351 0.3,8.049
3D body: height 0.75, standoff 0, extent -0.7,6.351 -0.5,8.049
3D body: height 0.75, standoff 0, extent -0.3,6.351 -0.1,8.049
3D body: height 0.75, standoff 0, extent -1.9,6.351 -1.7,8.049
3D body: height 0.75, standoff 0, extent -2.3,6.351 -2.1,8.049
3D body: height 0.75, standoff 0, extent -1.5,6.351 -1.3,8.049
3D body: height 0.75, standoff 0, extent -1.1,6.351 -0.9,8.049
3D body: height 0.75, standoff 0, extent -2.7,6.351 -2.5,8.049
3D body: height 0.75, standoff 0, extent -3.1,6.351 -2.9,8.049
3D body: height 0.75, standoff 0, extent -3.9,6.351 -3.7,8.049
3D body: height 0.75, standoff 0, extent -3.5,6.351 -3.3,8.049
3D body: height 0.75, standoff 0, extent -5.1,6.351 -4.9,8.049
3D body: height 0.75, standoff 0, extent -5.5,6.351 -5.3,8.049
3D body: height 0.75, standoff 0, extent -4.7,6.351 -4.5,8.049
3D body: height 0.75, standoff 0, extent -4.3,6.351 -4.1,8.049
3D body: height 0.75, standoff 0, extent -5.9,6.351 -5.7,8.049
3D body: height 0.75, standoff 0, extent -6.3,6.351 -6.1,8.049
3D body: height 0.75, standoff 0, extent -7.1,6.351 -6.9,8.049
3D body: height 0.75, standoff 0, extent -6.7,6.351 -6.5,8.049
3D body: height 0.75, standoff 0, extent -8.3,6.351 -8.1,8.049
3D body: height 0.75, standoff 0, extent -8.7,6.351 -8.5,8.049
3D body: height 0.75, standoff 0, extent -7.9,6.351 -7.7,8.049
3D body: height 0.75, standoff 0, extent -7.5,6.351 -7.3,8.049
3D body: height 0.75, standoff 0, extent 9.351,3.3 11.049,3.5
3D body: height 0.75, standoff 0, extent 9.351,3.7 11.049,3.9
3D body: height 0.75, standoff 0, extent 9.351,4.5 11.049,4.7
3D body: height 0.75, standoff 0, extent 9.351,4.1 11.049,4.3
3D body: height 0.75, standoff 0, extent 9.351,5.7 11.049,5.9
3D body: height 0.75, standoff 0, extent 9.351,5.3 11.049,5.5
3D body: height 0.75, standoff 0, extent 9.351,4.9 11.049,5.1
3D body: height 0.75, standoff 0, extent 9.351,0.1 11.049,0.3
3D body: height 0.75, standoff 0, extent 9.351,0.5 11.049,0.7
3D body: height 0.75, standoff 0, extent 9.351,1.3 11.049,1.5
3D body: height 0.75, standoff 0, extent 9.351,0.9 11.049,1.1
3D body: height 0.75, standoff 0, extent 9.351,2.5 11.049,2.7
3D body: height 0.75, standoff 0, extent 9.351,2.9 11.049,3.1
3D body: height 0.75, standoff 0, extent 9.351,2.1 11.049,2.3
3D body: height 0.75, standoff 0, extent 9.351,1.7 11.049,1.9
3D body: height 0.75, standoff 0, extent 9.351,-3.1 11.049,-2.9
3D body: height 0.75, standoff 0, extent 9.351,-2.7 11.049,-2.5
3D body: height 0.75, standoff 0, extent 9.351,-1.9 11.049,-1.7
3D body: height 0.75, standoff 0, extent 9.351,-2.3 11.049,-2.1
3D body: height 0.75, standoff 0, extent 9.351,-0.7 11.049,-0.5
3D body: height 0.75, standoff 0, extent 9.351,-0.3 11.049,-0.1
3D body: height 0.75, standoff 0, extent 9.351,-1.1 11.049,-0.9
3D body: height 0.75, standoff 0, extent 9.351,-1.5 11.049,-1.3
3D body: height 0.75, standoff 0, extent 9.351,-4.7 11.049,-4.5
3D body: height 0.75, standoff 0, extent 9.351,-4.3 11.049,-4.1
3D body: height 0.75, standoff 0, extent 9.351,-3.5 11.049,-3.3
3D body: height 0.75, standoff 0, extent 9.351,-3.9 11.049,-3.7
3D body: height 0.75, standoff 0, extent 9.351,-5.5 11.049,-5.3
3D body: height 0.75, standoff 0, extent 9.351,-5.1 11.049,-4.9
3D body: height 0.75, standoff 0, extent 9.351,-5.9 11.049,-5.7
3D body: height 0.75, standoff 0, extent 9.351,-6.3 11.049,-6.1
3D body: height 0.75, standoff 0, extent -11.049,-6.3 -9.351,-6.1
3D body: height 0.75, standoff 0, extent -11.049,-5.9 -9.351,-5.7

## LGA14-0.8 [mm]
height 1
pads (14):
  rect 1.1x0.5 smd: 1(-1.1,2) 2(-1.1,1.2) 3(-1.1,0.4) 4(-1.1,-0.4) 5(-1.1,-1.2) 6(-1.1,-2) 8(1.1,-2) 9(1.1,-1.2) 10(1.1,-0.4) 11(1.1,0.4) 12(1.1,1.2) 13(1.1,2)
  rect 0.5x1.1 smd: 7(0,-2.1) 14(0,2.1)
Top Overlay:
  lines w0.3: -2,2.4 -1.4,3 ; -2,-3 -2,3 2,3 2,-3 -2,-3
Mechanical 1:
  circle w0.1: c-0.7,1.7 r0.4
  lines w0.1: -1.5,-2.5 1.5,-2.5 1.5,2.5 -1.5,2.5 -1.5,-2.5
3D body: height 1, standoff 0, extent -1.5,-2.5 1.5,2.5

## LGA16-0.5 [mm]
height 1
pads (16):
  rect 0.4x0.25 smd: 1(-1.2,1) 2(-1.2,0.5) 3(-1.2,0) 4(-1.2,-0.5) 5(-1.2,-1) 9(1.2,-1) 10(1.2,-0.5) 11(1.2,0) 12(1.2,0.5) 13(1.2,1)
  rect 0.25x0.4 smd: 6(-0.5,-1.2) 7(0,-1.2) 8(0.5,-1.2) 14(0.5,1.2) 15(0,1.2) 16(-0.5,1.2)
Top Overlay:
  lines w0.3: -2,1.4 -1.4,2 ; -2,-2 2,-2 2,2 -2,2 -2,-2
Mechanical 1:
  circle w0.1: c-0.65,0.65 r0.4
  lines w0.1: -1.5,-1.5 -1.5,1.5 1.5,1.5 1.5,-1.5 -1.5,-1.5
3D body: height 1, standoff 0, extent -1.5,-1.5 1.5,1.5

## LQFP32 [mm] "0.5 mm pitch"
height 1.6
pads (32):
  rect 1.3x0.25 smd: 1(-3.25,1.75) 2(-3.25,1.25) 3(-3.25,0.75) 4(-3.25,0.25) 5(-3.25,-0.25) 6(-3.25,-0.75) 7(-3.25,-1.25) 8(-3.25,-1.75) 17(3.25,-1.75) 18(3.25,-1.25) 19(3.25,-0.75) 20(3.25,-0.25) 21(3.25,0.25) 22(3.25,0.75) 23(3.25,1.25) 24(3.25,1.75)
  rect 0.25x1.3 smd: 9(-1.75,-3.25) 10(-1.25,-3.25) 11(-0.75,-3.25) 12(-0.25,-3.25) 13(0.25,-3.25) 14(0.75,-3.25) 15(1.25,-3.25) 16(1.75,-3.25) 25(1.75,3.25) 26(1.25,3.25) 27(0.75,3.25) 28(0.25,3.25) 29(-0.25,3.25) 30(-0.75,3.25) 31(-1.25,3.25) 32(-1.75,3.25)
Top Overlay:
  lines w0.3: -4,-2.5 -4,-4 -2.5,-4 ; 2.5,-4 4,-4 4,-2.5 ; 2.5,4 4,4 4,2.5 ; -4,2.5 -4,4 -2.5,4 -4,2.5
Mechanical 1:
  circle w0.1: c-1.6,1.6 r0.5
  lines w0.1: -3.5,-1.75 -2.5,-1.75 ; -3.5,-1.25 -2.5,-1.25 ; -3.5,-0.75 -2.5,-0.75 ; -3.5,-0.25 -2.5,-0.25 ; -3.5,0.25 -2.5,0.25 ; -3.5,0.75 -2.5,0.75 ; -3.5,1.25 -2.5,1.25 ; -3.5,1.75 -2.5,1.75 ; -1.75,-3.5 -1.75,-2.5 ; -1.75,2.5 -1.75,3.5 ; -1.25,-3.5 -1.25,-2.5 ; -1.25,2.5 -1.25,3.5 ; -0.75,-3.5 -0.75,-2.5 ; -0.75,2.5 -0.75,3.5 ; -0.25,-3.5 -0.25,-2.5 ; -0.25,2.5 -0.25,3.5 ; 0.25,-3.5 0.25,-2.5 ; 0.25,2.5 0.25,3.5 ; 0.75,-3.5 0.75,-2.5 ; 0.75,2.5 0.75,3.5 ; 1.25,-3.5 1.25,-2.5 ; 1.25,2.5 1.25,3.5 ; 1.75,-3.5 1.75,-2.5 ; 1.75,2.5 1.75,3.5 ; 2.5,-1.75 3.5,-1.75 ; 2.5,-1.25 3.5,-1.25 ; 2.5,-0.75 3.5,-0.75 ; 2.5,-0.25 3.5,-0.25 ; 2.5,0.25 3.5,0.25 ; 2.5,0.75 3.5,0.75 ; 2.5,1.25 3.5,1.25 ; 2.5,1.75 3.5,1.75 ; -2.5,-2.5 2.5,-2.5 2.5,2.5 -2.5,2.5 -2.5,-2.5
Mechanical 5:
  lines w0.1: -3.5,2 -2,2 -2,3.5 ; -3.5,-3.5 -3.5,3.5 3.5,3.5 3.5,-3.5 -3.5,-3.5
  text ".Designator" at -1.5,-1 h1.5
Mechanical 6:
  lines w0.1: -3.5,2 -2,2 -2,3.5 ; -3.5,-3.5 3.5,-3.5 3.5,3.5 -3.5,3.5 -3.5,-3.5
  text ".Comment" at -1.5,-1 h1.5
3D body: height 1.6, standoff 0.2, extent -2.5,-2.5 2.5,2.5
3D body: height 0.75, standoff 0, extent -3.5,1.15 -1.802,1.35
3D body: height 0.75, standoff 0, extent -3.5,1.65 -1.802,1.85
3D body: height 0.75, standoff 0, extent -3.5,-0.35 -1.802,-0.15
3D body: height 0.75, standoff 0, extent -3.5,-0.85 -1.802,-0.65
3D body: height 0.75, standoff 0, extent -3.5,0.15 -1.802,0.35
3D body: height 0.75, standoff 0, extent -3.5,0.65 -1.802,0.85
3D body: height 0.75, standoff 0, extent -0.85,-3.5 -0.65,-1.802
3D body: height 0.75, standoff 0, extent -0.35,-3.5 -0.15,-1.802
3D body: height 0.75, standoff 0, extent 0.65,-3.5 0.85,-1.802
3D body: height 0.75, standoff 0, extent 0.15,-3.5 0.35,-1.802
3D body: height 0.75, standoff 0, extent -1.85,-3.5 -1.65,-1.802
3D body: height 0.75, standoff 0, extent -1.35,-3.5 -1.15,-1.802
3D body: height 0.75, standoff 0, extent 1.802,1.15 3.5,1.35
3D body: height 0.75, standoff 0, extent 1.802,1.65 3.5,1.85
3D body: height 0.75, standoff 0, extent 1.802,-0.85 3.5,-0.65
3D body: height 0.75, standoff 0, extent 1.802,-0.35 3.5,-0.15
3D body: height 0.75, standoff 0, extent 1.802,0.65 3.5,0.85
3D body: height 0.75, standoff 0, extent 1.802,0.15 3.5,0.35
3D body: height 0.75, standoff 0, extent 1.802,-1.35 3.5,-1.15
3D body: height 0.75, standoff 0, extent 1.802,-1.85 3.5,-1.65
3D body: height 0.75, standoff 0, extent -1.35,1.802 -1.15,3.5
3D body: height 0.75, standoff 0, extent -1.85,1.802 -1.65,3.5
3D body: height 0.75, standoff 0, extent 0.65,1.802 0.85,3.5
3D body: height 0.75, standoff 0, extent 0.15,1.802 0.35,3.5
3D body: height 0.75, standoff 0, extent -0.85,1.802 -0.65,3.5
3D body: height 0.75, standoff 0, extent -0.35,1.802 -0.15,3.5
3D body: height 0.75, standoff 0, extent 1.15,-3.5 1.35,-1.802
3D body: height 0.75, standoff 0, extent 1.65,-3.5 1.85,-1.802
3D body: height 0.75, standoff 0, extent 1.15,1.802 1.35,3.5
3D body: height 0.75, standoff 0, extent 1.65,1.802 1.85,3.5
3D body: height 0.75, standoff 0, extent -3.5,-1.35 -1.802,-1.15
3D body: height 0.75, standoff 0, extent -3.5,-1.85 -1.802,-1.65